# Altium integrated library ECA1HM220I.IntLib: 1 symbol
Pins are listed as number, name and electrical type; pins without a type are passive.

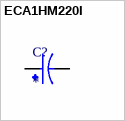
[diagram p0: symbol ECA1HM220I]

## ECA1HM220I
designator C?
Capacitor,Alum Lytic,Cap 22 uF,Tol 20%,Vol-Rtg 50 VDC,Radial,5x11,Tape&Box | Panasonic Electronic Components ECA-1HM220I; SnapEDA_Link: https://www.snapeda.com/parts/ECA-1HM220I/Panasonic/view-part/?ref=snap; Package: RADIAL-2 Panasonic; Value: *; MF: Panasonic; MP: ECA-1HM220I; Check_prices: https://www.snapeda.com/parts/ECA-1HM220I/Panasonic/view-part/?ref=eda
footprint CAPPRD250W50D500H1100
pins: N, P